# EAGLE library part 623X1021021 (library Board-to-Board (rev18a))
WR-PHD 1.27mm Dual SMT Socket Header H=4.50mm, 10 Pins=>Code : Con_BTB_SHD_1.27_2_623x1021021(Packaging:x = 0: Tube x = 3: Tape & Reel with Cap) <http://katalog.we-online.de/media/thumbs2/eican/thb_Con_BTB_SHD_1.27_2_6230xx21021_pf2.jpg> 6230xx21021 Details see: http://katalog.we-online.de/en/em/PHD_1_27_SMT_DUAL_SOCKET_HEADER_6230XX21021 6233xx21021 Details see: http://katalog.we-online.de/en/em/PHD_1_27_SMT_DUAL_SOCKET_HEADER_REEL_6233XX21021 2014 (C) Würth Elektronik
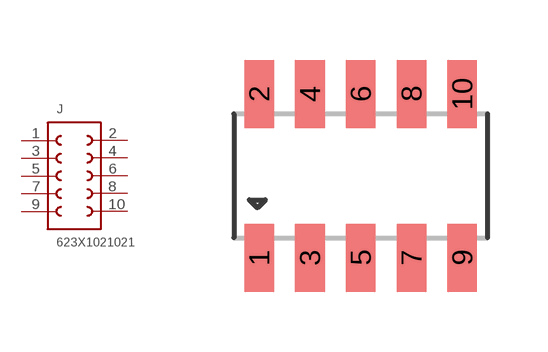
[diagram p295: symbol with the pads of 623X1021021; footprint 623X1021021]

Designator prefix J

## 623X1021021  [623X1021021]
1  1  pas
2  10  pas
3  2  pas
4  9  pas
5  3  pas
6  8  pas
7  4  pas
8  7  pas
9  5  pas
10  6  pas

## Footprint 623X1021021 (pad centres in mm)
WR-PHD 1.27mm Dual SMT Socket Header H=4.50mm, 10 Pins
smd 0.74 x 1.7: 1 -2.54,-2.05; 2 -2.54,2.05; 3 -1.27,-2.05; 4 -1.27,2.05; 5 0,-2.05; 6 0,2.05; 7 1.27,-2.05; 8 1.27,2.05; 9 2.54,-2.05; 10 2.54,2.05